# EAGLE library part STEPS_BLKBOX_MINI_A1 (library stepOSP)
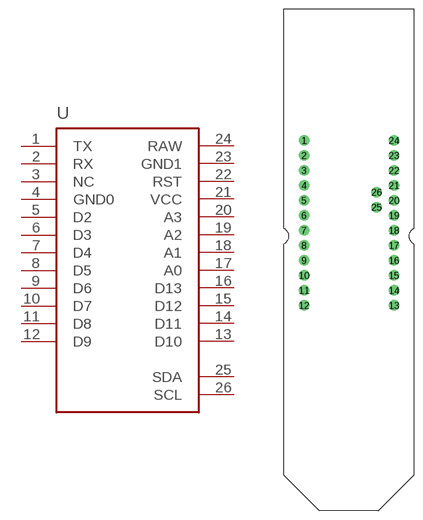
[diagram p19: symbol with the pads of STEPS_BLACKBOX_MINI_A1; footprint STEPS_BLACKBOX_MINI_A1]

Designator prefix -

## STEPS_BLKBOX_MINI_A1  [STEPS_BLACKBOX_MINI_A1]
1  TX
2  RX
3  NC
4  GND0
5  D2
6  D3
7  D4
8  D5
9  D6
10  D7
11  D8
12  D9
13  D10
14  D11
15  D12
16  D13
17  A0
18  A1
19  A2
20  A3
21  VCC
22  RST
23  GND1
24  RAW
25  SDA
26  SCL

## Footprint STEPS_BLACKBOX_MINI_A1 (pad centres in mm)
drill 1.016 pad 1.778: 1 -7.62,12.7; 2 -7.62,10.16; 3 -7.62,7.62; 4 -7.62,5.08; 5 -7.62,2.54; 6 -7.62,0; 7 -7.62,-2.54; 8 -7.62,-5.08; 9 -7.62,-7.62; 10 -7.62,-10.16; 11 -7.62,-12.7; 12 -7.62,-15.24; 13 7.62,-15.24; 14 7.62,-12.7; 15 7.62,-10.16; 16 7.62,-7.62; 17 7.62,-5.08; 18 7.62,-2.54; 19 7.62,0; 20 7.62,2.54; 21 7.62,5.08; 22 7.62,7.62; 23 7.62,10.16; 24 7.62,12.7; 25 4.699,1.397; 26 4.699,3.937